# Altium footprint library SPI_Flash_S25FL256SAGNFI00_WSON-8.PcbLib: 1 footprints
Each footprint in its own frame and in the unit in brackets; x right, y up, seen from the top. Pads: shape width x height; smd on the part's side, far side on the other; paste and mask are expansions set on the pad; w line width, h text height; cw(c..) or ccw(c..) is an arc to the next point about the centre after c.
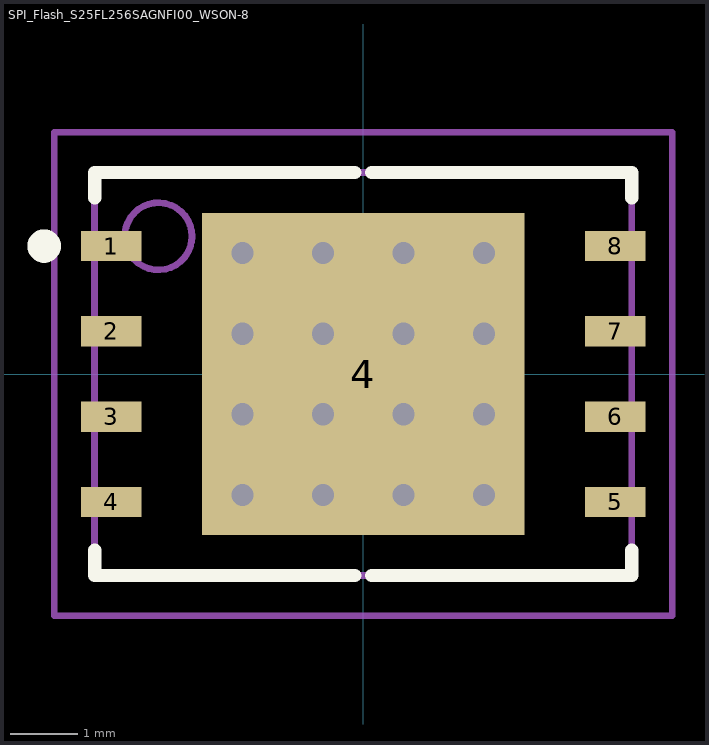
[diagram p0: the footprint, top view; thin cyan lines are the x and y axes]

## SPI_Flash_S25FL256SAGNFI00_WSON-8 [mm]
height 0.8
pads (9):
  rect 0.9x0.45 smd: 1(-3.75,1.905) 2(-3.75,0.635) 3(-3.75,-0.635) 4(-3.75,-1.905) 5(3.75,-1.905) 6(3.75,-0.635) 7(3.75,0.635) 8(3.75,1.905)
  rect 4.8x4.8 smd: 4(0,0)
via 1.8,-1.8 diameter 0.66 hole 0.33
via 0.6,-1.8 diameter 0.66 hole 0.33
via -0.6,-1.8 diameter 0.66 hole 0.33
via -1.8,-1.8 diameter 0.66 hole 0.33
via 1.8,-0.6 diameter 0.66 hole 0.33
via 0.6,-0.6 diameter 0.66 hole 0.33
via -0.6,-0.6 diameter 0.66 hole 0.33
via -1.8,-0.6 diameter 0.66 hole 0.33
via 1.8,0.6 diameter 0.66 hole 0.33
via 0.6,0.6 diameter 0.66 hole 0.33
via -0.6,0.6 diameter 0.66 hole 0.33
via -1.8,0.6 diameter 0.66 hole 0.33
via 1.8,1.8 diameter 0.66 hole 0.33
via 0.6,1.8 diameter 0.66 hole 0.33
via -0.6,1.8 diameter 0.66 hole 0.33
via -1.8,1.8 diameter 0.66 hole 0.33
Top Overlay:
  circle w0.25: c-4.75,1.905 r0.125
  lines w0.2: -4,-2.625 -4,-3 -0.125,-3 ; -4,2.625 -4,3 -0.125,3 ; 0.125,-3 4,-3 4,-2.625 ; 0.125,3 4,3 4,2.625
Mechanical 13:
  circle w0.1: c-3.05,2.05 r0.5
  lines w0.1: -4,-3 4,-3 4,3 -4,3 -4,-3
Mechanical 15:
  lines w0.1: -0.5,0 0.5,0 ; 0,-0.5 0,0.5 ; -4.6,-3.6 4.6,-3.6 4.6,3.6 -4.6,3.6 -4.6,-3.6
3D body: height 0.8, standoff 0, extent -4,-3 4,3